# EAGLE library part DPDT (library CEDTv75)
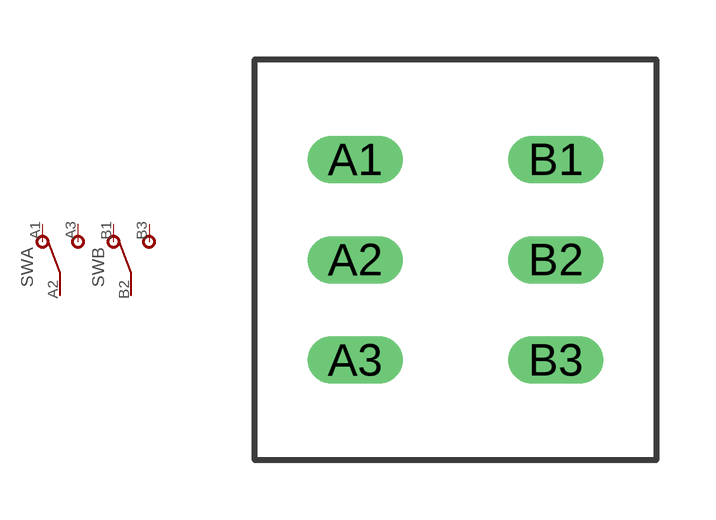
[diagram p30: symbol with the pads of DPDT; footprint DPDT]

Designator prefix SW; gates A=SPDT B=SPDT

## DPDT  [DPDT]
A1  A:1  pas
A2  A:2  pas
A3  A:3  pas
B1  B:1  pas
B2  B:2  pas
B3  B:3  pas

## Footprint DPDT (pad centres in mm)
drill 0.7 long: A1 -2.54,2.54; A2 -2.54,0; A3 -2.54,-2.54; B1 2.54,2.54; B2 2.54,0; B3 2.54,-2.54